# Altium schematic symbol library NXP_Semiconductors_BUK9Y21_40E_115.SchLib: 1 symbol
Pins are listed as number, name and electrical type; pins without a type are passive.

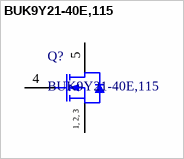
[diagram p0: symbol BUK9Y21-40E,115]

## BUK9Y21-40E,115
designator Q?
N-Channel Logic Level MOSFET, 40 V, 33 A, 5-Pin SOT669, Tape and Reel; Manufacturer: NXP Semiconductors; VGSth [typ] (V): 1.7; Automotive Qualified: Y; VDS [max] (V): 40; Packing: Tape & Reel; Qr [typ] (nC): 7; ID [max] (A): 33; IDM [max] (A): 131; Channel Type: N; ComponentLink1Description: Manufacturer URL; ComponentLink2Description: Datasheet; PartNumber: BUK9Y21-40E,115; Mounting Technology: Surface Mount; ComponentLink3URL: http://www.nxp.com/documents/outline_drawing/sot669_po.pdf; ComponentLink3Description: Package Specification; ComponentLink1URL: http://www.nxp.com/; Code_JEDEC: MO-235; PackageVersion: 13-02-27, 02/2013; PackageDescription: 4-Pin Plastic Single-ended Surface Mounted Package, Body 4.9 x 3.95 mm, Pitch 1.27 mm; ComponentLink2URL: http://www.nxp.com/documents/data_sheet/BUK9Y21-40E.pdf; PackageReference: SOT669
footprint NXP-SOT669_M
footprint NXP-SOT669_N
footprint NXP-SOT669_L
pins: 1 S "source", 2 S "source", 3 S "source", 4 G "gate", 5 D "mounting base; connected to drain"
text: 1, 2, 3